# EAGLE library part ADV72080A-M (library ICs)
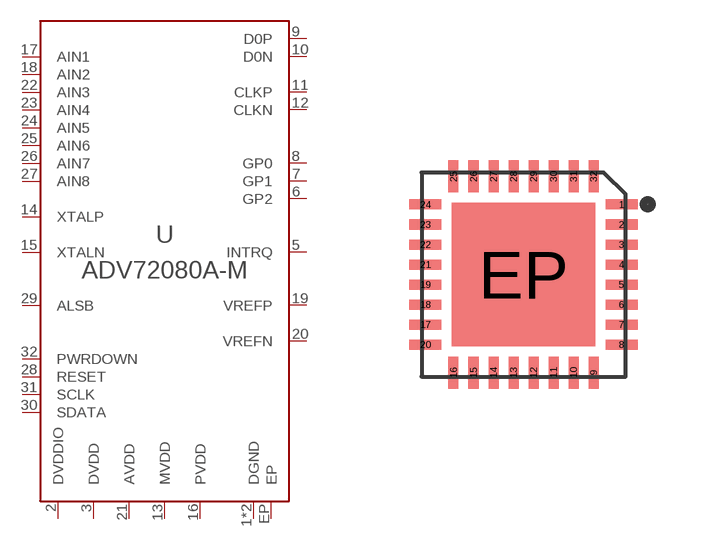
[diagram p48: symbol with the pads of LFCSP-32; footprint LFCSP-32]

Designator prefix U

## ADV72080A-M (MFG: Analog Devices; MPN: ADV72080A-M; VALUE: ADV72080A-M)  [LFCSP-32]
1  DGND
2  DVDDIO
3  DVDD
4  DGND
5  INTRQ
6  GP2
7  GP1
8  GP0
9  D0P
10  D0N
11  CLKP
12  CLKN
13  MVDD
14  XTALP
15  XTALN
16  PVDD
17  AIN1
18  AIN2
19  VREFP
20  VREFN
21  AVDD
22  AIN3
23  AIN4
24  AIN5
25  AIN6
26  AIN7
27  AIN8
28  RESET
29  ALSB
30  SDATA
31  SCLK
32  PWRDOWN
EP  EP

## Footprint LFCSP-32 (pad centres in mm)
smd 0.8 x 0.25: 1 2.45,1.75; 2 2.45,1.25; 3 2.45,0.75; 4 2.45,0.25; 5 2.45,-0.25; 6 2.45,-0.75; 7 2.45,-1.25; 8 2.45,-1.75; 17 -2.45,-1.25; 18 -2.45,-0.75; 19 -2.45,-0.25; 20 -2.45,-1.75; 21 -2.45,0.25; 22 -2.45,0.75; 23 -2.45,1.25; 24 -2.45,1.75
smd 0.25 x 0.8: 9 1.75,-2.45; 10 1.25,-2.45; 11 0.75,-2.45; 12 0.25,-2.45; 13 -0.25,-2.45; 14 -0.75,-2.45; 15 -1.25,-2.45; 16 -1.75,-2.45; 25 -1.75,2.45; 26 -1.25,2.45; 27 -0.75,2.45; 28 -0.25,2.45; 29 0.25,2.45; 30 0.75,2.45; 31 1.25,2.45; 32 1.75,2.45
smd 3.6 x 3.6: EP 0,0